# Altium schematic symbol library Nucleo f466.SchLib: 8 symbols
Pins are listed as number, name and electrical type; pins without a type are passive.

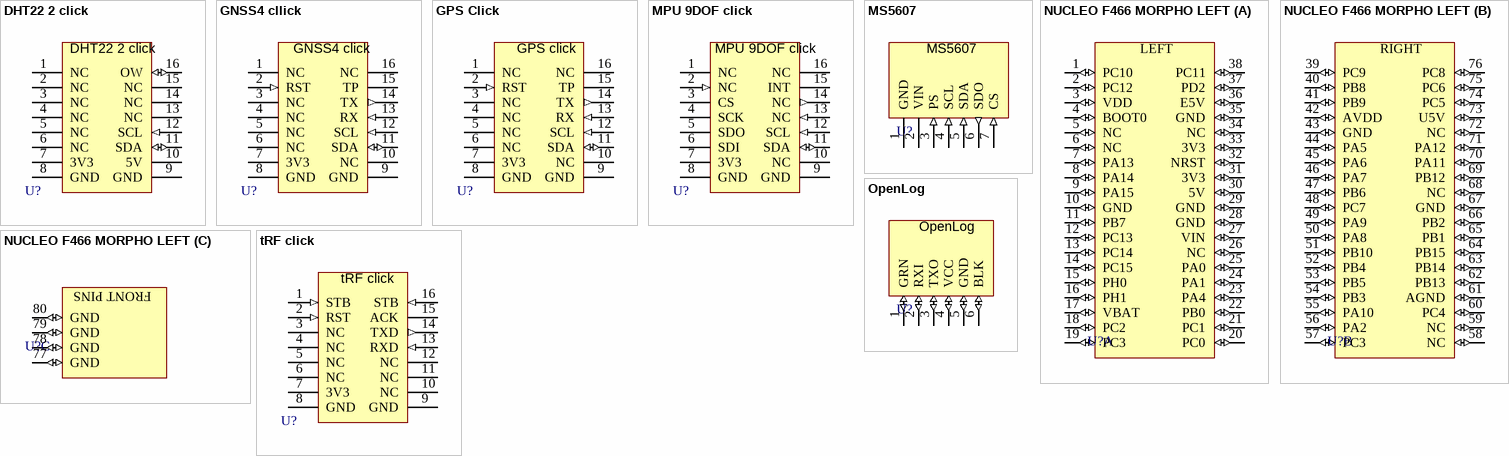
[diagram p0: symbols DHT22 2 click to tRF click]

## DHT22 2 click
designator U?  (value not drawn)
footprint DHT22 2 click (DHT22 click footprint)
pins: 1 NC (hiz), 2 NC (hiz), 3 NC (hiz), 4 NC (hiz), 5 NC (hiz), 6 NC (hiz), 7 3V3 (power), 8 GND (power), 9 GND (power), 10 5V (power), 11 SDA (io), 12 SCL (in), 13 NC (hiz), 14 NC (hiz), 15 NC (hiz), 16 OW (io)

## GNSS4 cllick
designator U?  (value not drawn)
footprint GNSS4 click
pins: 1 NC (hiz), 2 RST (in), 3 NC (hiz), 4 NC (hiz), 5 NC (hiz), 6 NC (hiz), 7 3V3 (power), 8 GND (power), 9 GND (power), 10 NC (oe), 11 SDA (io), 12 SCL (in), 13 RX (in), 14 TX (out), 15 TP (hiz), 16 NC (hiz)
text: GNSS4 click

## GPS Click
designator U?  (value not drawn)
footprint GPS click (base footprint w/o model)
pins: 1 NC (hiz), 2 RST (in), 3 NC (hiz), 4 NC (hiz), 5 NC (hiz), 6 NC (hiz), 7 3V3 (power), 8 GND (power), 9 GND (power), 10 NC (oe), 11 SDA (io), 12 SCL (in), 13 RX (in), 14 TX (out), 15 TP (hiz), 16 NC (hiz)
text: GPS click

## MPU 9DOF click
designator U?  (value not drawn)
footprint MPU 9DOF click (MPU9520 footprint)
pins: 1 NC (hiz), 2 NC (in), 3 CS (hiz), 4 SCK (hiz), 5 SDO (hiz), 6 SDI (hiz), 7 3V3 (power), 8 GND (power), 9 GND (power), 10 NC (oe), 11 SDA (io), 12 SCL (in), 13 NC (in), 14 NC (out), 15 INT (hiz), 16 NC (hiz)

## MS5607
designator U?  (value not drawn)
footprint MS5607
pins: 1 GND (power), 2 VIN (power), 3 PS (in), 4 SCL (in), 5 SDA (in), 6 SDO (out), 7 CS (in)

## NUCLEO F466 MORPHO LEFT
designator U?  (value not drawn)
footprint Nucleo_bot_pads
footprint Nucleo_top_pads
part A pins: 1 PC10 (io), 2 PC12 (io), 3 VDD (io), 4 BOOT0 (io), 5 NC (io), 6 NC (io), 7 PA13 (io), 8 PA14 (io), 9 PA15 (io), 10 GND (io), 11 PB7 (io), 12 PC13 (io), 13 PC14 (io), 14 PC15 (io), 15 PH0 (io), 16 PH1 (io), 17 VBAT (io), 18 PC2 (io), 19 PC3 (io), 20 PC0 (io), 21 PC1 (io), 22 PB0 (io), 23 PA4 (io), 24 PA1 (io), 25 PA0 (io), 26 NC (io), 27 VIN (io), 28 GND (io), 29 GND (io), 30 5V (io), 31 3V3 (io), 32 NRST (io), 33 3V3 (io), 34 NC (io), 35 GND (io), 36 E5V (io), 37 PD2 (io), 38 PC11 (io)
part B pins: 39 PC9 (io), 40 PB8 (io), 41 PB9 (io), 42 AVDD (io), 43 GND (io), 44 PA5 (io), 45 PA6 (io), 46 PA7 (io), 47 PB6 (io), 48 PC7 (io), 49 PA9 (io), 50 PA8 (io), 51 PB10 (io), 52 PB4 (io), 53 PB5 (io), 54 PB3 (io), 55 PA10 (io), 56 PA2 (io), 57 PC3 (io), 58 NC (io), 59 NC (io), 60 PC4 (io), 61 AGND (io), 62 PB13 (io), 63 PB14 (io), 64 PB15 (io), 65 PB1 (io), 66 PB2 (io), 67 GND (io), 68 NC (io), 69 PB12 (io), 70 PA11 (io), 71 PA12 (io), 72 NC (io), 73 U5V (io), 74 PC5 (io), 75 PC6 (io), 76 PC8 (io)
part C pins: 77 GND (io), 78 GND (io), 79 GND (io), 80 GND (io)
part A text: LEFT
part B text: RIGHT
part C text: FRONT PINS

## OpenLog
designator U?  (value not drawn)
footprint OpenLog
pins: 1 GRN (io), 2 RXI (io), 3 TXO (io), 4 VCC (io), 5 GND (io), 6 BLK (io)

## tRF click
designator U?  (value not drawn)
footprint tRF click (base footprint w/o model)
pins: 1 STB (in), 2 RST (in), 3 NC (hiz), 4 NC (hiz), 5 NC (hiz), 6 NC (hiz), 7 3V3 (power), 8 GND (power), 9 GND (power), 10 NC (hiz), 11 NC (hiz), 12 NC (hiz), 13 RXD (in), 14 TXD (out), 15 ACK (hiz), 16 STB (in)